# EAGLE library part RJ45-1 (library Connectors)
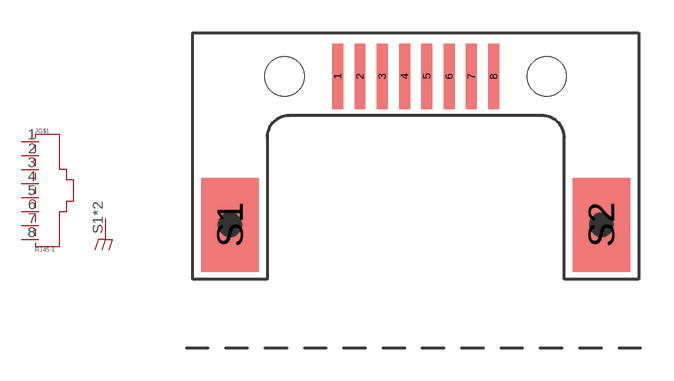
[diagram p10: symbol with the pads of RJ45-SMD-C; footprint RJ45-SMD-C]

Designator prefix J; gates G$1=RJ45 G$2=SHIELD

## RJ45-1  [RJ45-SMD-C]
1  G$1:1  pas
2  G$1:2  pas
3  G$1:3  pas
4  G$1:4  pas
5  G$1:5  pas
6  G$1:6  pas
7  G$1:7  pas
8  G$1:8  pas
S1  G$2:P$1  pas
S2  G$2:P$1  pas

## Footprint RJ45-SMD-C (pad centres in mm)
smd 0.5 x 3: 1 -3.57,0; 2 -2.55,0; 3 -1.53,0; 4 -0.51,0; 5 0.51,0; 6 1.53,0; 7 2.55,0; 8 3.57,0
smd 2.62 x 4.3: S1 -8.5,-6.8; S2 8.5,-6.8
hole 1.8 at -6,0
hole 1.8 at 6,0